# Altium schematic symbol library avago-optocouplers.SchLib: 1 symbol
Pins are listed as number, name and electrical type; pins without a type are passive.

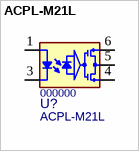
[diagram p0: symbol ACPL-M21L]

## ACPL-M21L
designator U?, comment 000000  value ACPL-M21L
Low Power CMOS Photocoupler; MFG: AVAGO; PN: 000000; Package: SO-5; ExtraInfo: *
footprint SO-5 (SOIC, 6-Leads, Body 3.7x4.4mm (max), Pitch 1.27mm, IPC Medium Density)
pins: 1 A "Anode", 3 K "Cathode", 4 GND "Emitter", 5 VO "Collector", 6 VDD "Collector"